# EAGLE library part DP3T-AYZ (library Neel)
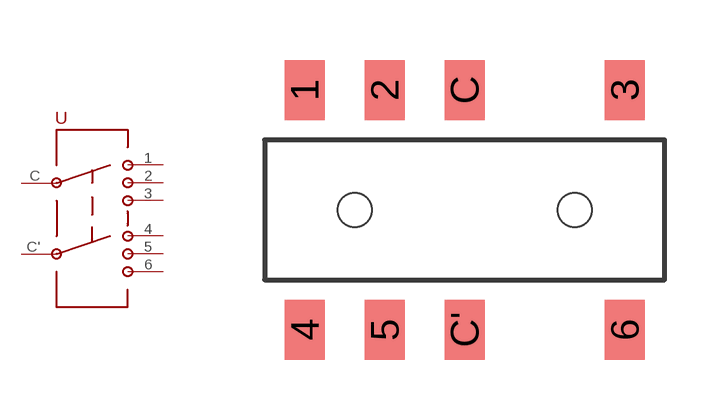
[diagram p41: symbol with the pads of AYZ-DP3T; footprint AYZ-DP3T]

Designator prefix -

## DP3T-AYZ  [AYZ-DP3T]
1  P$3
2  P$4
3  P$5
4  P$6
5  P$7
6  P$8
C  P$1
C'  P$2

## Footprint AYZ-DP3T (pad centres in mm)
smd 1 x 1.5: 1 -4,3; 2 -2,3; 3 4,3; 4 -4,-3; 5 -2,-3; 6 4,-3; C 0,3; C' 0,-3
hole 0.85 at -2.75,0
hole 0.85 at 2.75,0